# Altium schematic symbol library AVX Corporation.SchLib: 2 symbols
Pins are listed as number, name and electrical type; pins without a type are passive.

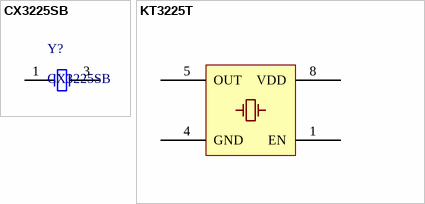
[diagram p0: symbols CX3225SB to KT3225T]

## CX3225SB
designator Y?
pins: 1 OSC1, 2 GND hidden to GND, 3 OSC2, 4 GND hidden to GND

## KT3225T
designator U?
footprint RAD-0.3 (Radial Cap, Thru-Hole; 2 Leads; 0.3 in Pin Spacing)
simulation model CAP (Capacitor)
signal-integrity model Cap
footprint TDK-CGA3E
pins: 1 EN, 4 GND, 5 OUT, 8 VDD